# Altium footprint library CN_IDC20_918520X914.PcbLib: 1 footprints
Each footprint in its own frame and in the unit in brackets; x right, y up, seen from the top. Pads: shape width x height; smd on the part's side, far side on the other; paste and mask are expansions set on the pad; w line width, h text height; cw(c..) or ccw(c..) is an arc to the next point about the centre after c.
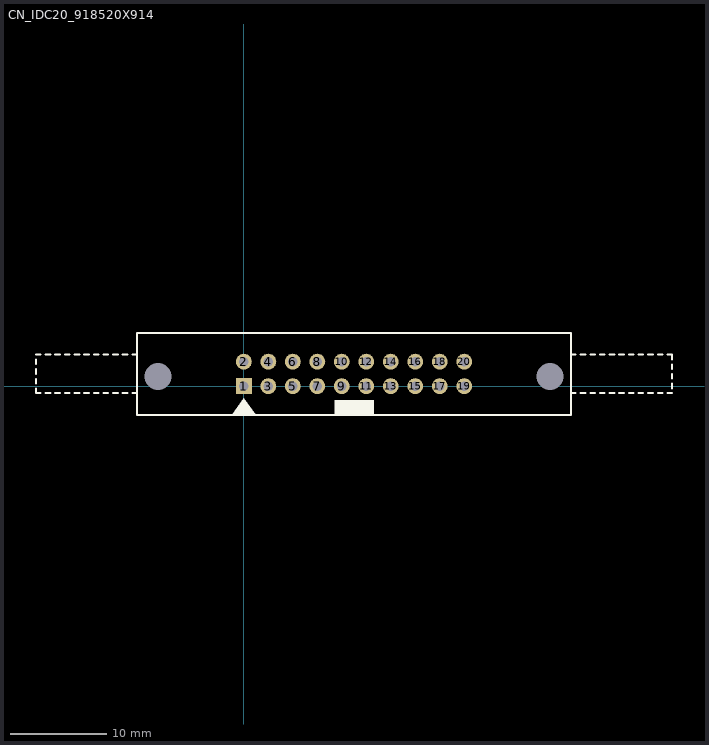
[diagram p0: the footprint, top view; thin cyan lines are the x and y axes]

## CN_IDC20_918520X914 [mm] "Connector; IDC, Thru-Hole; 20 Position; Vertical; Pitch 2.54 mm; Body 45.00 x 8.5 x 23.30 mm (LxWxH), Locking levers"
height 23.3
pads (22):
  rect 1.65x1.65 hole 1: 1(0,0)
  round 1.65 hole 1: 2(0,2.54) 3(2.54,0) 4(2.54,2.54) 5(5.08,0) 6(5.08,2.54) 7(7.62,0) 8(7.62,2.54) 9(10.16,0) 10(10.16,2.54) 11(12.7,0) 12(12.7,2.54) 13(15.24,0) 14(15.24,2.54) 15(17.78,0) 16(17.78,2.54) 17(20.32,0) 18(20.32,2.54) 19(22.86,0) 20(22.86,2.54)
  round 0 hole 2.8 unplated mask+1.4: MH1(-8.89,1.02) MH2(31.75,1.02)
Top Overlay:
  rectangle: 9.38,-2.98 13.48,-1.43
  region: 0,-1.25 1.25,-2.98 -1.25,-3
  lines w0.2: -21.58,0.77 -21.57,0.27 ; -21.58,1.77 -21.57,1.27 ; -21.58,2.77 -21.57,2.27 ; -21.57,-0.23 -21.57,-0.73 -21.07,-0.73 ; -21.57,3.27 -21.07,3.27 ; -20.57,-0.73 -20.07,-0.73 ; -20.57,3.27 -20.07,3.27 ; -19.57,-0.73 -19.07,-0.73 ; -19.57,3.27 -19.07,3.27 ; -18.57,-0.73 -18.07,-0.73 ; -18.57,3.27 -18.07,3.27 ; -17.57,-0.73 -17.07,-0.73 ; -17.57,3.27 -17.07,3.27 ; -16.57,-0.73 -16.07,-0.73 ; -16.57,3.27 -16.07,3.27 ; -15.57,-0.73 -15.07,-0.73 ; -15.57,3.27 -15.07,3.27 ; -14.57,-0.73 -14.07,-0.73 ; -14.57,3.27 -14.07,3.27 ; -13.57,-0.73 -13.07,-0.73 ; -13.57,3.27 -13.07,3.27 ; -12.57,-0.73 -12.07,-0.73 ; -12.57,3.27 -12.07,3.27 ; -11.57,-0.73 -11.07,-0.73 ; -11.57,3.27 -11.07,3.27 ; 33.93,-0.73 34.43,-0.73 ; 33.93,3.27 34.43,3.27 ; 34.93,-0.73 35.43,-0.73 ; 34.93,3.27 35.43,3.27 ; 35.93,-0.73 36.43,-0.73 ; 35.93,3.27 36.43,3.27 ; 36.93,-0.73 37.43,-0.73 ; 36.93,3.27 37.43,3.27 ; 37.93,-0.73 38.43,-0.73 ; 37.93,3.27 38.43,3.27 ; 38.93,-0.73 39.43,-0.73 ; 38.93,3.27 39.43,3.27 ; 39.93,-0.73 40.43,-0.73 ; 39.93,3.27 40.43,3.27 ; 40.93,-0.73 41.43,-0.73 ; 40.93,3.27 41.43,3.27 ; 41.93,-0.73 42.43,-0.73 ; 41.93,3.27 42.43,3.27 ; 42.93,-0.73 43.43,-0.73 ; 42.93,3.27 43.43,3.27 ; 43.93,-0.73 44.43,-0.73 ; 43.93,3.27 44.43,3.27 44.43,2.77 ; 44.43,-0.23 44.43,0.27 ; 44.43,0.77 44.43,1.27 ; 44.43,1.77 44.43,2.27 ; -11.07,-2.98 33.93,-2.98 33.93,5.52 -11.07,5.52 -11.07,-2.98
3D body: height 25.75, standoff -3.2, extent -11.07,-2.98 33.93,5.52